# Altium schematic symbol library Schlib1.SchLib: 1 symbol
Pins are listed as number, name and electrical type; pins without a type are passive.

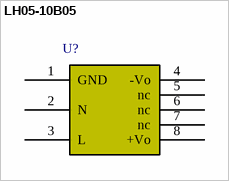
[diagram p0: symbol LH05-10B05]

## LH05-10B05
designator U?  (value not drawn)
Manufacturer: Mornsun; P/N: EE00001; Manufacturer P/N: LH05-10B05
footprint LH05X
pins: 1 GND, 2 N, 3 L, 4 -Vo, 5 nc, 6 nc, 7 nc, 8 +Vo